# Altium footprint library PcbLib1.PcbLib: 36 footprints (part 3 of 3)
Each footprint in its own frame and in the unit in brackets; x right, y up, seen from the top. Pads: shape width x height; smd on the part's side, far side on the other; paste and mask are expansions set on the pad; w line width, h text height; cw(c..) or ccw(c..) is an arc to the next point about the centre after c.
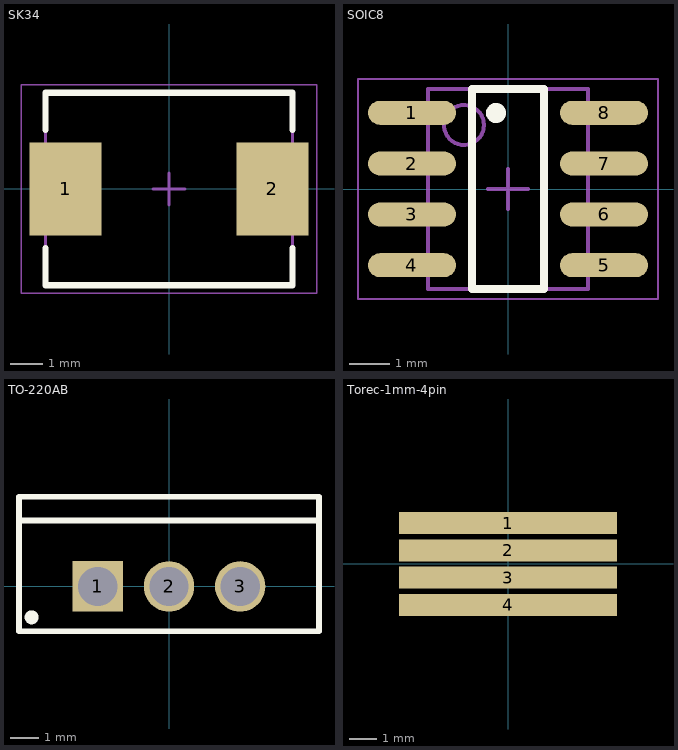
[diagram p2: the footprints below, top view; thin cyan lines are the x and y axes]

## SK34 [mm] "Molded Capacitor, 2-Leads, Body 7,20x5,80mm, IPC Medium Density"
height 2.3
pads (2):
  rect 2.25x2.9 smd: 1(-3.225,0) 2(3.225,0)
Top Overlay:
  lines w0.2: -3.85,-1.85 -3.85,-3 3.85,-3 3.85,-1.85 ; -3.85,1.85 -3.85,3 3.85,3 3.85,1.85
Mechanical 13:
  lines w0.1: -3.85,-3 -3.85,3 3.85,3 3.85,-3 -3.85,-3
Mechanical 15:
  lines w0.05: -4.6,-3.25 -4.6,3.25 4.6,3.25 4.6,-3.25 -4.6,-3.25
  lines w0.1: -0.5,0 0.5,0 ; 0,-0.5 0,0.5
3D body "User Library-DO-214AB SMC.step": height 2.3, standoff 0, extent -3.975,-2.95 3.975,2.95

## SOIC8 [mm]
pads (8):
  oval 2.2x0.6 smd: 1(-2.4,1.905) 2(-2.4,0.635) 3(-2.4,-0.635) 4(-2.4,-1.905) 5(2.4,-1.905) 6(2.4,-0.635) 7(2.4,0.635) 8(2.4,1.905)
Top Overlay:
  circle w0.25: c-0.3,1.9 r0.125
  lines w0.2: -0.9,-2.5 0.9,-2.5 0.9,2.5 -0.9,2.5 -0.9,-2.5
Mechanical 13:
  circle w0.1: c-1.1,1.6 r0.5
  lines w0.1: -2,-2.5 2,-2.5 2,2.5 -2,2.5 -2,-2.5
Mechanical 15:
  lines w0.05: -3.75,-2.75 3.75,-2.75 3.75,2.75 -3.75,2.75 -3.75,-2.75
  lines w0.1: -0.5,0 0.5,0 ; 0,-0.5 0,0.5
3D body "User Library-SOIC-8-1.step": height 1.75, standoff 0, extent -3,-2.45 3,2.45

## TO-220AB [mm] "TO, Thru-Hole, Vertical, Heatsink Mounted; 3 In-Line Leads; Pitch 2.54 mm"
height 19.3
pads (3):
  rect 1.8x1.8 hole 1.4: 1(-2.54,0)
  round 1.8 hole 1.4: 2(0,0) 3(2.54,0)
Top Overlay:
  circle w0.25: c-4.9,-1.1 r0.125
  lines w0.2: -5.35,2.35 5.35,2.35 ; -5.35,-1.6 -5.35,3.2 5.35,3.2 5.35,-1.6 -5.35,-1.6
Mechanical 13:
  lines w0.1: -5.35,-1.6 5.35,-1.6 5.35,3.2 -5.35,3.2 -5.35,-1.6
Mechanical 15:
  lines w0.1: -0.5,0 0.5,0 ; 0,-0.5 0,0.5
3D body "3546357.stp": height 22.76, standoff -8.23, extent -5.335,-1.608 5.335,3.222

## Torec-1mm-4pin [mm]
pads (4):
  rect 8x0.8 smd: 1(0,1.5) 2(0,0.5) 3(0,-0.5) 4(0,-1.5)